# EAGLE library part KXN_HEADER_1X13 (library kxnStandard_connector)
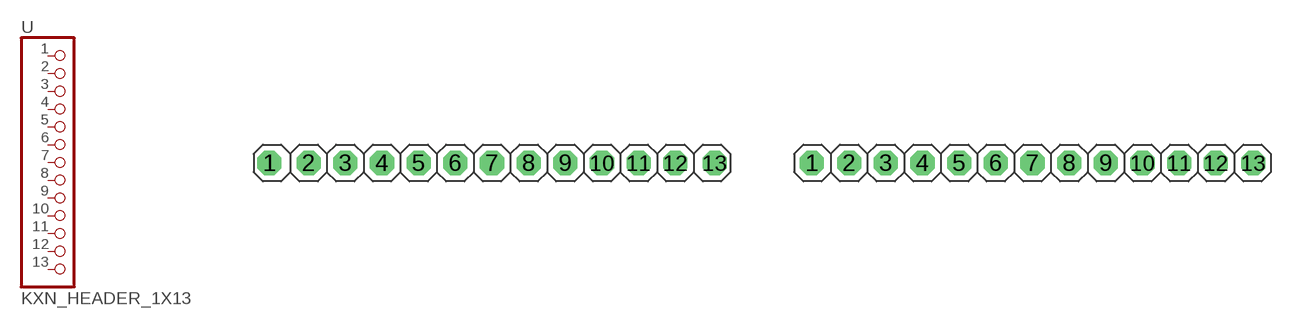
[diagram p9: symbol with the pads of HEADER_1X13_254_LOCK; footprints HEADER_1X13_254_LOCK, HEADER_1X13_254_LOCK_FEMALE]

Designator prefix -

## KXN_HEADER_1X13_LOCK (CC_SHOP: CongCo)  [HEADER_1X13_254_LOCK]
1  1  pas
2  2  pas
3  3  pas
4  4  pas
5  5  pas
6  6  pas
7  7  pas
8  8  pas
9  9  pas
10  10  pas
11  11  pas
12  12  pas
13  13  pas

## KXN_HEADER_1X13_LOCK_FEMALE (CC_SHOP: CongCo)  [HEADER_1X13_254_LOCK_FEMALE]
Pads as for HEADER_1X13_254_LOCK

## Footprint HEADER_1X13_254_LOCK (pad centres in mm)
drill 0.9 pad 1.676 octagon: 1 -15.42,0
drill 0.95 pad 1.676 octagon: 2 -12.7,0; 3 -10.16,0; 4 -7.62,0; 5 -5.08,0; 6 -2.54,0; 7 0,0; 8 2.54,0; 9 5.08,0; 10 7.62,0; 11 10.16,0; 12 12.7,0; 13 15.42,0

## Footprint HEADER_1X13_254_LOCK_FEMALE (pad centres in mm)
drill 0.55 pad 1.676 octagon: 1 -15.29,0; 13 15.29,0
drill 0.65 pad 1.676 octagon: 2 -12.7,0; 12 12.7,0
drill 0.75 pad 1.676 octagon: 3 -10.16,0; 4 -7.62,0; 5 -5.08,0; 6 -2.54,0; 7 0,0; 8 2.54,0; 9 5.08,0; 10 7.62,0; 11 10.16,0